# EAGLE library part TEN60-S24-S24-P4-RA (library BackplaneConnector)
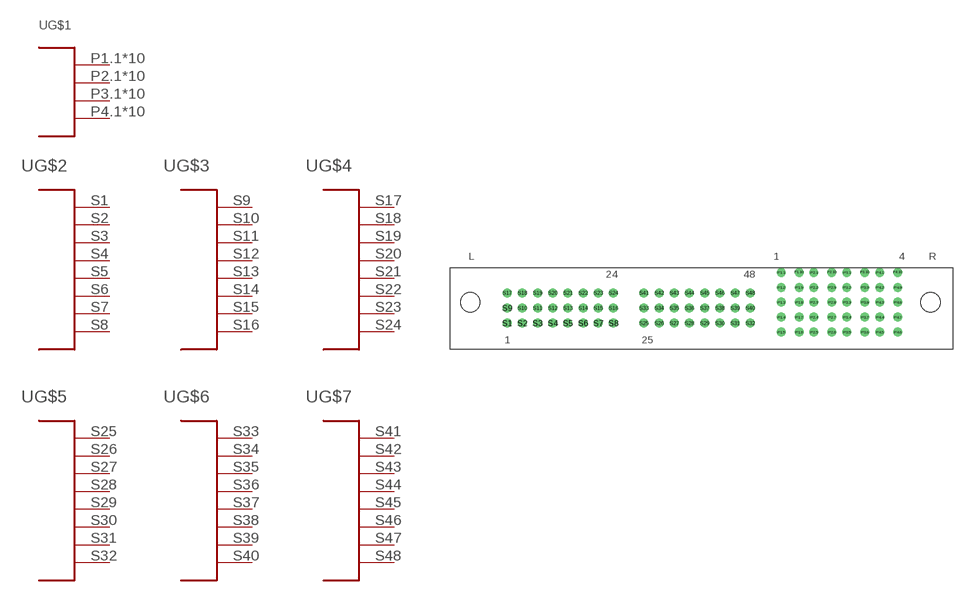
[diagram p2: symbol with the pads of TEN60-S24-S24-P4-RA; footprint TEN60-S24-S24-P4-RA]

Designator prefix -; gates G$1=TEN60-4-PWR G$2=TEN60-8-SIG G$3=TEN60-8-SIG G$4=TEN60-8-SIG G$5=TEN60-8-SIG G$6=TEN60-8-SIG G$7=TEN60-8-SIG

## TEN60-S24-S24-P4-RA  [TEN60-S24-S24-P4-RA]
P1.1  G$1:P$1
P1.2  G$1:P$1
P1.3  G$1:P$1
P1.4  G$1:P$1
P1.5  G$1:P$1
P1.6  G$1:P$1
P1.7  G$1:P$1
P1.8  G$1:P$1
P1.9  G$1:P$1
P1.10  G$1:P$1
P2.1  G$1:P$2
P2.2  G$1:P$2
P2.3  G$1:P$2
P2.4  G$1:P$2
P2.5  G$1:P$2
P2.6  G$1:P$2
P2.7  G$1:P$2
P2.8  G$1:P$2
P2.9  G$1:P$2
P2.10  G$1:P$2
P3.1  G$1:P$3
P3.2  G$1:P$3
P3.3  G$1:P$3
P3.4  G$1:P$3
P3.5  G$1:P$3
P3.6  G$1:P$3
P3.7  G$1:P$3
P3.8  G$1:P$3
P3.9  G$1:P$3
P3.10  G$1:P$3
P4.1  G$1:P$4
P4.2  G$1:P$4
P4.3  G$1:P$4
P4.4  G$1:P$4
P4.5  G$1:P$4
P4.6  G$1:P$4
P4.7  G$1:P$4
P4.8  G$1:P$4
P4.9  G$1:P$4
P4.10  G$1:P$4
S1  G$2:P$1
S2  G$2:P$2
S3  G$2:P$3
S4  G$2:P$4
S5  G$2:P$5
S6  G$2:P$6
S7  G$2:P$7
S8  G$2:P$8
S9  G$3:P$1
S10  G$3:P$2
S11  G$3:P$3
S12  G$3:P$4
S13  G$3:P$5
S14  G$3:P$6
S15  G$3:P$7
S16  G$3:P$8
S17  G$4:P$1
S18  G$4:P$2
S19  G$4:P$3
S20  G$4:P$4
S21  G$4:P$5
S22  G$4:P$6
S23  G$4:P$7
S24  G$4:P$8
S25  G$5:P$1
S26  G$5:P$2
S27  G$5:P$3
S28  G$5:P$4
S29  G$5:P$5
S30  G$5:P$6
S31  G$5:P$7
S32  G$5:P$8
S33  G$6:P$1
S34  G$6:P$2
S35  G$6:P$3
S36  G$6:P$4
S37  G$6:P$5
S38  G$6:P$6
S39  G$6:P$7
S40  G$6:P$8
S41  G$7:P$1
S42  G$7:P$2
S43  G$7:P$3
S44  G$7:P$4
S45  G$7:P$5
S46  G$7:P$6
S47  G$7:P$7
S48  G$7:P$8

## Footprint TEN60-S24-S24-P4-RA (pad centres in mm)
drill 1: P1.1 55.32,12.9; P1.2 55.32,10.4; P1.3 55.32,7.9; P1.4 55.32,5.4; P1.5 55.32,2.9; P1.6 58.32,2.9; P1.7 58.32,5.4; P1.8 58.32,7.9; P1.9 58.32,10.4; P1.10 58.32,12.9; P2.1 60.82,12.9; P2.2 60.82,10.4; P2.3 60.82,7.9; P2.4 60.82,5.4; P2.5 60.82,2.9; P2.6 63.82,2.9; P2.7 63.82,5.4; P2.8 63.82,7.9; P2.9 63.82,10.4; P2.10 63.82,12.9; P3.1 66.32,12.9; P3.2 66.32,10.4; P3.3 66.32,7.9; P3.4 66.32,5.4; P3.5 66.32,2.9; P3.6 69.32,2.9; P3.7 69.32,5.4; P3.8 69.32,7.9; P3.9 69.32,10.4; P3.10 69.32,12.9; P4.1 71.82,12.9; P4.2 71.82,10.4; P4.3 71.82,7.9; P4.4 71.82,5.4; P4.5 71.82,2.9; P4.6 74.82,2.9; P4.7 74.82,5.4; P4.8 74.82,7.9; P4.9 74.82,10.4; P4.10 74.82,12.9; S1 9.49,4.4; S2 12.03,4.4; S3 14.57,4.4; S4 17.11,4.4; S5 19.65,4.4; S6 22.19,4.4; S7 24.73,4.4; S8 27.27,4.4; S9 9.49,6.94; S10 12.03,6.94; S11 14.57,6.94; S12 17.11,6.94; S13 19.65,6.94; S14 22.19,6.94; S15 24.73,6.94; S16 27.27,6.94; S17 9.49,9.48; S18 12.03,9.48; S19 14.57,9.48; S20 17.11,9.48; S21 19.65,9.48; S22 22.19,9.48; S23 24.73,9.48; S24 27.27,9.48; S25 32.37,4.4; S26 34.91,4.4; S27 37.45,4.4; S28 39.99,4.4; S29 42.53,4.4; S30 45.07,4.4; S31 47.61,4.4; S32 50.15,4.4; S33 32.37,6.94; S34 34.91,6.94; S35 37.45,6.94; S36 39.99,6.94; S37 42.53,6.94; S38 45.07,6.94; S39 47.61,6.94; S40 50.15,6.94; S41 32.37,9.48; S42 34.91,9.48; S43 37.45,9.48; S44 39.99,9.48; S45 42.53,9.48; S46 45.07,9.48; S47 47.61,9.48; S48 50.15,9.48
hole 3.2 at 3.32,7.9
hole 3.2 at 80.32,7.9